# EAGLE library part LED_RING_16 (library dreimalbe)
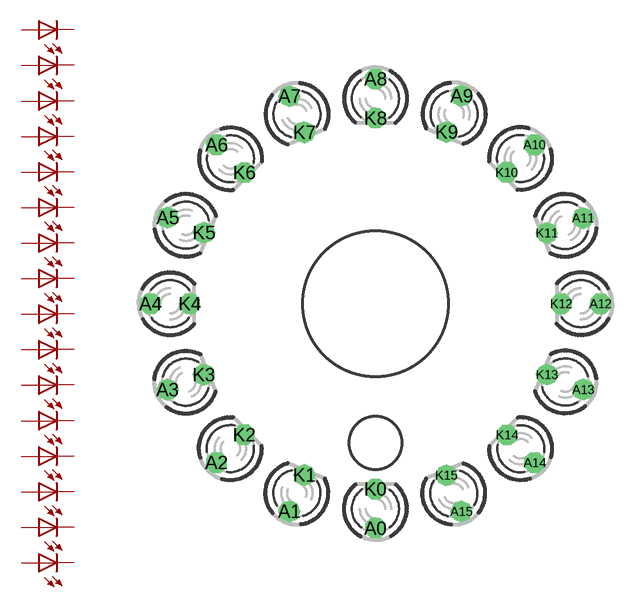
[diagram p5: symbol with the pads of POTI_LED_RING16; footprint POTI_LED_RING16]

Designator prefix -

## LED_RING_16  [POTI_LED_RING16]
A0  A0  pas
A1  A1  pas
A2  A2  pas
A3  A3  pas
A4  A4  pas
A5  A5  pas
A6  A6  pas
A7  A7  pas
A8  A8  pas
A9  A9  pas
A10  A10  pas
A11  A11  pas
A12  A12  pas
A13  A13  pas
A14  A14  pas
A15  A15  pas
K0  K0  pas
K1  K1  pas
K2  K2  pas
K3  K3  pas
K4  K4  pas
K5  K5  pas
K6  K6  pas
K7  K7  pas
K8  K8  pas
K9  K9  pas
K10  K10  pas
K11  K11  pas
K12  K12  pas
K13  K13  pas
K14  K14  pas
K15  K15  pas

## Footprint POTI_LED_RING16 (pad centres in mm)
drill 0.813 octagon: A0 0,-14.53; A1 -5.568,-13.43; A2 -10.281,-10.274; A3 -13.441,-5.562; A4 -14.545,0; A5 -13.435,5.569; A6 -10.272,10.279; A7 -5.561,13.434; A8 0,14.545; A9 5.572,13.457; A10 10.272,10.29; A11 13.426,5.548; A12 14.55,0; A13 13.437,-5.554; A14 10.296,-10.285; A15 5.554,-13.444; K0 0,-11.99; K1 -4.596,-11.083; K2 -8.485,-8.478; K3 -11.095,-4.59; K4 -12.005,0; K5 -11.088,4.597; K6 -8.476,8.483; K7 -4.589,11.087; K8 0,12.005; K9 4.6,11.11; K10 8.476,8.494; K11 11.079,4.576; K12 12.01,0; K13 11.091,-4.582; K14 8.499,-8.489; K15 4.582,-11.097